# EAGLE library part USB_A (library 3D_MIG_Controller)
USB-A Connector Male and female variants, as well as PTH and SMT variants SparkFun Products: SparkFun XBee Explorer Dongle <https://www.sparkfun.com/products/11697> PTH Male SparkFun MicroView-USB Programmer <https://www.sparkfun.com/products/12924> SMT Male SparkFun USB Type A Female Breakout <https://www.sparkfun.com/products/12700> SMT Female
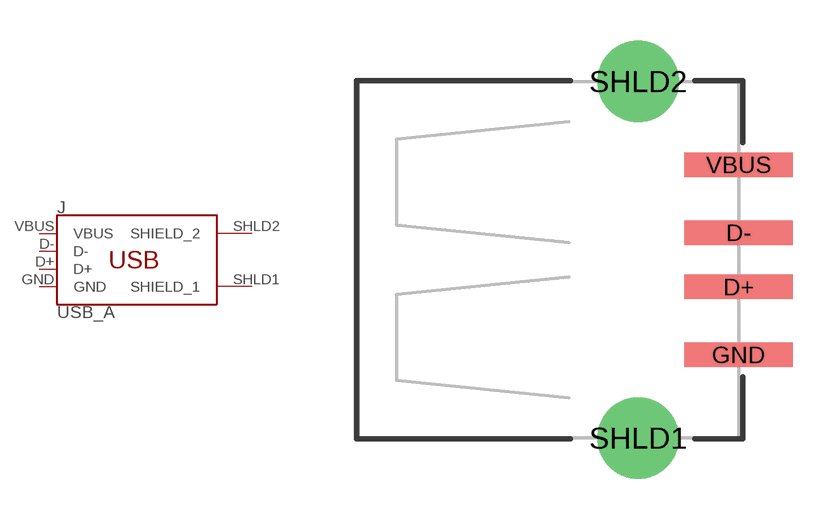
[diagram p31: symbol with the pads of USB_A_SMT; footprint USB_A_SMT]

Designator prefix J

## USB_A (NOZZLE: CN400; PARTNO: 87583-3010RPALF; VALUE: USB-A)  [USB_A_SMT]
D+  D+
D-  D-
GND  GND  pwr
SHLD1  SHIELD_1
SHLD2  SHIELD_2
VBUS  VBUS  pwr

## Footprint USB_A_SMT (pad centres in mm)
USB Type 'A' Female Connector - SMT Silk Outline Shield pins may be grounded. tDocu shows plug end. Specifications: Pin count:6 Datasheet referenced for footprint Example device(s): USB_A
smd 4 x 0.9: D+ 6.7,-1; D- 6.7,1; GND 6.7,-3.5; VBUS 6.7,3.5
drill 2: SHLD1 3,-6.566; SHLD2 3,6.566